# Altium footprint library X1-DFN1006-2-DIODES-INC.PcbLib: 1 footprints
Each footprint in its own frame and in the unit in brackets; x right, y up, seen from the top. Pads: shape width x height; smd on the part's side, far side on the other; paste and mask are expansions set on the pad; w line width, h text height; cw(c..) or ccw(c..) is an arc to the next point about the centre after c.
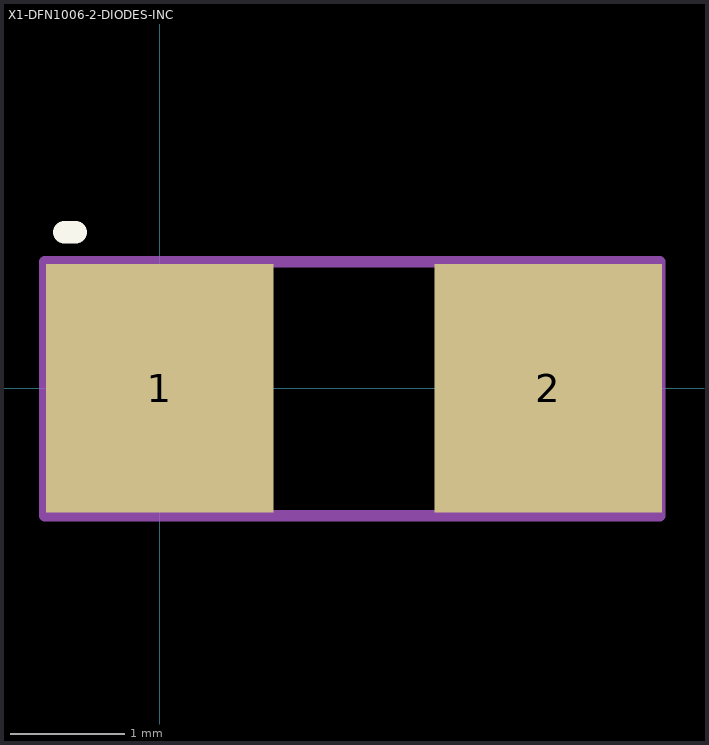
[diagram p0: the footprint, top view; thin cyan lines are the x and y axes]

## X1-DFN1006-2-DIODES-INC [mm]
pads (2):
  rect 2x2.18 smd mask+0: 1(0,0) 2(3.41,0)
Top Overlay:
  lines w0.2: -0.84,1.37 -0.74,1.37
Mechanical 13:
  lines w0.1: -1.01,-1.12 4.39,-1.12 4.39,1.11 -1.01,1.11 -1.01,-1.12
Mechanical 15:
  lines w0.1: -0.127,0 0,0 ; 0,-0.127 0,0 ; 0,0.127 0,0 ; 0.127,0 0,0
3D body "SMB_STM.step": height 2.64, standoff 0, extent -1.094,-2 4.494,1.962